# EAGLE library part GSM_SIM900_LITERAL (library microbuilder)
SIM900 Quad-Band GSM/GPRS Module Power Supply: 3.2-4.8V Temperature Range: -30°C-+80°C Bands: GSM 850, EGSM 900, DCS 1800, PCS 1900
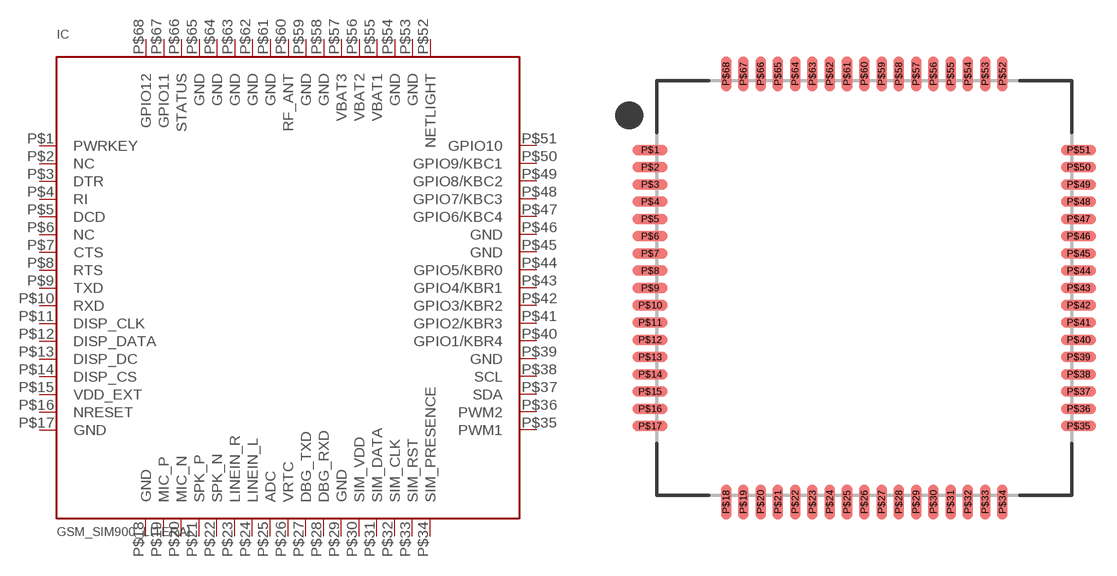
[diagram p122: symbol with the pads of SIM900_SMT; footprint SIM900_SMT]

Designator prefix IC

## GSM_SIM900_LITERAL  [SIM900_SMT]
P$1  PWRKEY  pwr
P$2  NC  nc
P$3  DTR  in
P$4  RI  out
P$5  DCD  out
P$6  NC  nc
P$7  CTS  out
P$8  RTS  in
P$9  TXD  out
P$10  RXD  in
P$11  DISP_CLK
P$12  DISP_DATA
P$13  DISP_DC
P$14  DISP_CS
P$15  VDD_EXT
P$16  NRESET
P$17  GND  pwr
P$18  GND  pwr
P$19  MIC_P
P$20  MIC_N
P$21  SPK_P
P$22  SPK_N
P$23  LINEIN_R
P$24  LINEIN_L
P$25  ADC
P$26  VRTC  pwr
P$27  DBG_TXD  out
P$28  DBG_RXD  in
P$29  GND  pwr
P$30  SIM_VDD  pwr
P$31  SIM_DATA
P$32  SIM_CLK
P$33  SIM_RST
P$34  SIM_PRESENCE
P$35  PWM1
P$36  PWM2
P$37  SDA
P$38  SCL
P$39  GND  pwr
P$40  GPIO1/KBR4
P$41  GPIO2/KBR3
P$42  GPIO3/KBR2
P$43  GPIO4/KBR1
P$44  GPIO5/KBR0
P$45  GND  pwr
P$46  GND  pwr
P$47  GPIO6/KBC4
P$48  GPIO7/KBC3
P$49  GPIO8/KBC2
P$50  GPIO9/KBC1
P$51  GPIO10
P$52  NETLIGHT
P$53  GND  pwr
P$54  GND  pwr
P$55  VBAT1  pwr
P$56  VBAT2  pwr
P$57  VBAT3  pwr
P$58  GND  pwr
P$59  GND  pwr
P$60  RF_ANT
P$61  GND  pwr
P$62  GND  pwr
P$63  GND  pwr
P$64  GND  pwr
P$65  GND  pwr
P$66  STATUS
P$67  GPIO11  pwr
P$68  GPIO12  pwr

## Footprint SIM900_SMT (pad centres in mm)
smd 2 x 0.6: P$1 -12.4,8; P$2 -12.4,7; P$3 -12.4,6; P$4 -12.4,5; P$5 -12.4,4; P$6 -12.4,3; P$7 -12.4,2; P$8 -12.4,1; P$9 -12.4,0; P$10 -12.4,-1; P$11 -12.4,-2; P$12 -12.4,-3; P$13 -12.4,-4; P$14 -12.4,-5; P$15 -12.4,-6; P$16 -12.4,-7; P$17 -12.4,-8; P$35 12.4,-8; P$36 12.4,-7; P$37 12.4,-6; P$38 12.4,-5; P$39 12.4,-4; P$40 12.4,-3; P$41 12.4,-2; P$42 12.4,-1; P$43 12.4,0; P$44 12.4,1; P$45 12.4,2; P$46 12.4,3; P$47 12.4,4; P$48 12.4,5; P$49 12.4,6; P$50 12.4,7; P$51 12.4,8
smd 0.6 x 2: P$18 -8,-12.4; P$19 -7,-12.4; P$20 -6,-12.4; P$21 -5,-12.4; P$22 -4,-12.4; P$23 -3,-12.4; P$24 -2,-12.4; P$25 -1,-12.4; P$26 0,-12.4; P$27 1,-12.4; P$28 2,-12.4; P$29 3,-12.4; P$30 4,-12.4; P$31 5,-12.4; P$32 6,-12.4; P$33 7,-12.4; P$34 8,-12.4; P$52 8,12.4; P$53 7,12.4; P$54 6,12.4; P$55 5,12.4; P$56 4,12.4; P$57 3,12.4; P$58 2,12.4; P$59 1,12.4; P$60 0,12.4; P$61 -1,12.4; P$62 -2,12.4; P$63 -3,12.4; P$64 -4,12.4; P$65 -5,12.4; P$66 -6,12.4; P$67 -7,12.4; P$68 -8,12.4